# EAGLE library part TDA8551 (library Audio-Power-amlifier V.2.0)
1 W BTL audio amplifier with digital volume control
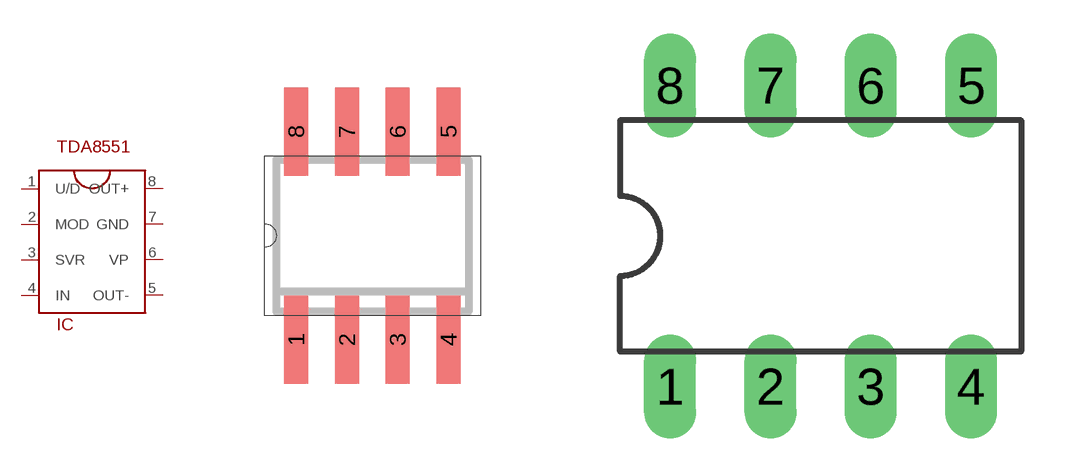
[diagram p35: symbol with the pads of SOT96-1; footprints SOT96-1, SOT97-1]

Designator prefix IC

## TDA8551  [SOT96-1]
1  U/D
2  MOD
3  SVR
4  IN  in
5  OUT-  out
6  VP  pwr
7  GND  pwr
8  OUT+  out

## TDA8551SOT97-1  [SOT97-1]
Pads as for SOT96-1

## Footprint SOT96-1 (pad centres in mm)
Small Outline Narrow Plastic Gull Wing 150-mil body, package type SN
smd 0.6 x 2.2: 1 -1.905,-2.6; 2 -0.635,-2.6; 3 0.635,-2.6; 4 1.905,-2.6; 5 1.905,2.6; 6 0.635,2.6; 7 -0.635,2.6; 8 -1.905,2.6

## Footprint SOT97-1 (pad centres in mm)
Dual In Line Package
drill 0.813 long: 1 -3.81,-3.81; 2 -1.27,-3.81; 3 1.27,-3.81; 4 3.81,-3.81; 5 3.81,3.81; 6 1.27,3.81; 7 -1.27,3.81; 8 -3.81,3.81